# EAGLE library part PDB182-GTR02 (library CYCFI_Passive)
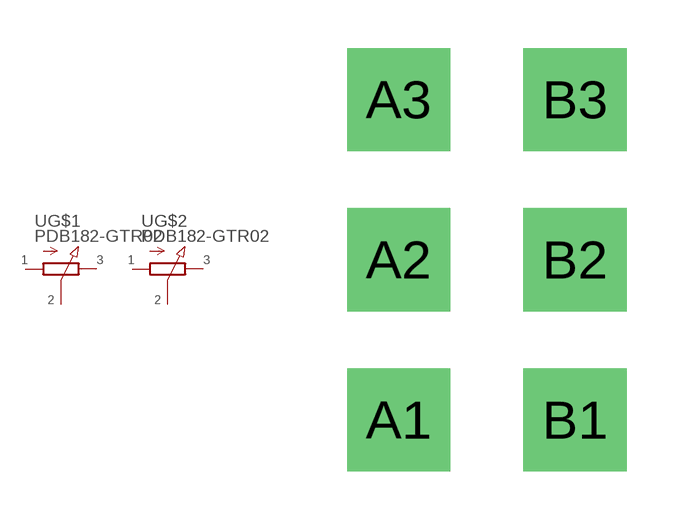
[diagram p0: symbol with the pads of PDB182-GTR01; footprint PDB182-GTR01]

Designator prefix -; gates G$1=POT-EU G$2=POT-EU

## PDB182-GTR02  [PDB182-GTR01]
A1  G$1:1  pas
A2  G$1:2  pas
A3  G$1:3  pas
B1  G$2:1  pas
B2  G$2:2  pas
B3  G$2:3  pas

## Footprint PDB182-GTR01 (pad centres in mm)
drill 2.2 square: A1 -2.75,-5; A2 -2.75,0; A3 -2.75,5; B1 2.75,-5; B2 2.75,0; B3 2.75,5